# Altium schematic symbol library Schlib1.SchLib: 1 symbol
Pins are listed as number, name and electrical type; pins without a type are passive.

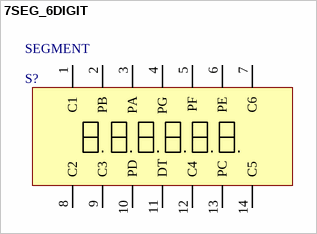
[diagram p0: symbol 7SEG_6DIGIT]

## 7SEG_6DIGIT
designator SEGMENT, comment S?
footprint 7SEG_6DIGIT
pins: 1 C1, 2 PB, 3 PA, 4 PG, 5 PF, 6 PE, 7 C6, 8 C2, 9 C3, 10 PD, 11 DT, 12 C4, 13 PC, 14 C5